# Altium footprint library MyPcbLib.PcbLib: 43 footprints (part 1 of 3)
Each footprint in its own frame and in the unit in brackets; x right, y up, seen from the top. Pads: shape width x height; smd on the part's side, far side on the other; paste and mask are expansions set on the pad; w line width, h text height; cw(c..) or ccw(c..) is an arc to the next point about the centre after c.
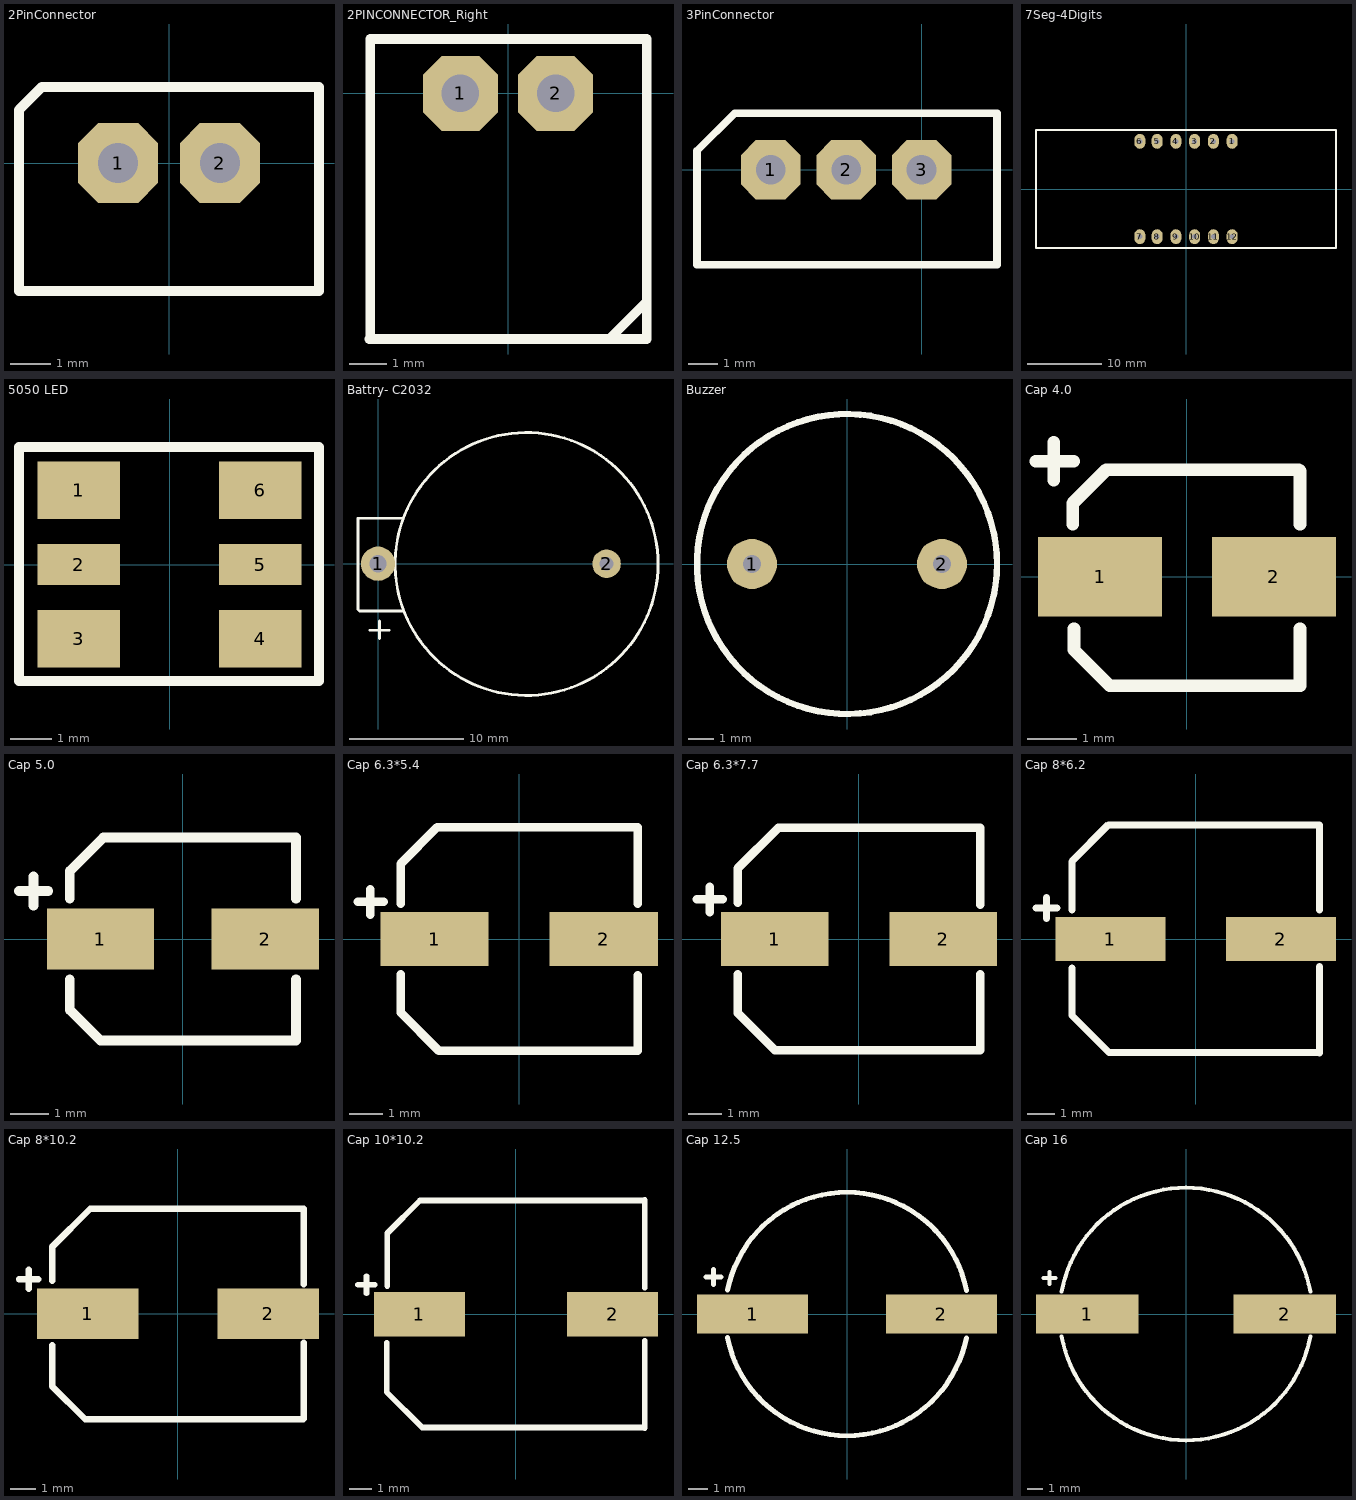
[diagram p0: the footprints below, top view; thin cyan lines are the x and y axes]

## 2PinConnector [mm]
height 6
pads (2):
  oct 2x2 hole 1: 1(-1.27,0) 2(1.27,0)
Top Overlay:
  lines w0.254: -3.75,0.635 -3.75,1.33 -3.175,1.905 3.75,1.905 3.75,-3.2 -3.75,-3.2 -3.75,0.717
3D body: height 6, standoff -1, extent -3.7,-3.1 3.7,1.9

## 2PINCONNECTOR_Right [mm]
height 10
pads (2):
  oct 2x2 hole 1: 1(-1.27,0) 2(1.27,0)
Top Overlay:
  lines w0.254: -3.7,-6.55 3.7,-6.55 3.7,1.45 -3.675,1.45 -3.675,-6.525 ; 2.7,-6.55 3.7,-5.55
3D body: height 4.95, standoff -3.45, extent -3.7,-6.475 3.7,1.425

## 3PinConnector [mm]
pads (3):
  oct 2x2 hole 1: 1(-5.08,0) 2(-2.54,0) 3(0,0)
Top Overlay:
  lines w0.254: -7.56,-3.2 2.54,-3.2 2.54,1.905 -6.29,1.905 -7.56,0.635 -7.56,-3.2
3D body: height 5.95, standoff -3.45, extent -7.46,-3.117 2.44,1.783

## 7Seg-4Digits [mm]
height 7
pads (12):
  oval 1.5x2 hole 0.7: 1(6.25,6.45) 2(3.71,6.45) 3(1.17,6.45) 4(-1.37,6.45) 5(-3.91,6.45) 6(-6.25,6.45) 7(-6.25,-6.45) 8(-3.91,-6.45) 9(-1.37,-6.45) 10(1.17,-6.45) 11(3.71,-6.45) 12(6.25,-6.45)
Top Overlay:
  lines w0.254: -20.32,-8 -20.32,8 20.32,8 20.32,-8 -20.32,-8
3D body: height 7, standoff 0, extent -20.3,-8 20.3,8

## 5050 LED [mm]
height 1.5
pads (6):
  rect 2x1.4 smd: 1(-2.2,1.8) 3(-2.2,-1.8) 4(2.2,-1.8) 6(2.2,1.8)
  rect 2x1 smd: 2(-2.2,0) 5(2.2,0)
Top Overlay:
  lines w0.254: -3.65,-2.825 3.625,-2.825 3.625,2.85 -3.65,2.85 -3.65,-2.825
3D body: height 1.5, standoff 0, extent -3.302,-2.602 3.302,2.602

## Battry- C2032 [mm]
height 9
pads (2):
  round 3 hole 1.5: 1(0,0)
  round 2.5 hole 1.2: 2(20,0)
Top Overlay:
  circle w0.254: c13,-0.025 r11.5
  lines w0.254: -0.725,-5.825 0.975,-5.825 ; 0.125,-6.55 0.125,-5 ; 2.2,-4.125 -1.625,-4.125 -1.75,-4 -1.75,3.975 2.2,3.975
3D body: height 8.7, standoff 0, extent -0.44,-11.049 23.808,11.143

## Buzzer [mm]
height 9.5
pads (2):
  round 2 hole 0.7: 1(-3.8,0) 2(3.8,0)
Top Overlay:
  circle w0.254: c0,0 r6
3D body: height 9.5, standoff 0, extent -5.993,-6 5.993,6

## Cap 4.0 [mm]
height 5.41
pads (2):
  rect 2.5x1.6 smd: 1(-1.75,0) 2(1.75,0)
Top Overlay:
  lines w0.254: -3.04,2.324 -2.278,2.324 ; -2.684,1.943 -2.684,2.705 ; -2.3,1.05 -2.3,1.475 -1.625,2.15 2.25,2.15 2.275,2.125 2.275,1.05 ; -2.275,-1.05 -2.275,-1.475 -1.55,-2.2 2.275,-2.2 2.275,-1.05
3D body: height 5.41, standoff 0, extent -2.3,-2.15 2.3,2.15

## Cap 5.0 [mm]
height 5.4
pads (2):
  rect 2.8x1.6 smd: 1(-2.15,0) 2(2.15,0)
Top Overlay:
  lines w0.254: -4.275,1.251 -3.513,1.251 ; -3.894,0.87 -3.894,1.632 ; -2.95,-1.05 -2.95,-1.85 -2.15,-2.65 2.95,-2.65 2.95,-1.05 ; -2.95,1.05 -2.95,1.775 -2.075,2.65 2.95,2.65 2.95,1.05
3D body: height 5.41, standoff 0, extent -2.95,-2.65 2.95,2.65

## Cap 6.3*5.4 [mm]
height 5.41
pads (2):
  rect 3.2x1.6 smd: 1(-2.5,0) 2(2.5,0)
Top Overlay:
  lines w0.254: -4.762,1.1 -4,1.1 ; -4.4,0.712 -4.4,1.474 ; -3.5,-1.05 -3.5,-2.175 -2.375,-3.3 3.5,-3.3 3.5,-1.075 ; -3.5,1.05 -3.5,2.225 -2.425,3.3 3.5,3.3 3.5,1.05
3D body: height 5.41, standoff 0, extent -3.5,-3.3 3.5,3.3

## Cap 6.3*7.7 [mm]
height 7.8
pads (2):
  rect 3.2x1.6 smd: 1(-2.5,0) 2(2.5,0)
Top Overlay:
  lines w0.254: -4.812,1.175 -4.05,1.175 ; -4.431,0.794 -4.431,1.556 ; -3.6,-1.05 -3.6,-2.2 -2.5,-3.3 3.6,-3.3 3.6,-1.05 ; -3.6,1.075 -3.6,2.1 -2.4,3.3 3.6,3.3 3.6,1.025
3D body: height 7.71, standoff 0, extent -3.6,-3.3 3.6,3.3

## Cap 8*6.2 [mm]
height 6.3
pads (2):
  rect 4x1.6 smd: 1(-3.1,0) 2(3.1,0)
Top Overlay:
  lines w0.254: -5.801,1.126 -5.039,1.126 ; -5.42,0.745 -5.42,1.507 ; -4.5,-1.05 -4.5,-2.775 -3.15,-4.125 4.475,-4.125 4.5,-4.15 4.5,-1 ; -4.5,1.05 -4.5,2.825 -3.175,4.15 4.5,4.15 4.5,1.05
3D body: height 6.21, standoff 0, extent -4.5,-4.15 4.5,4.15

## Cap 8*10.2 [mm]
height 10.3
pads (2):
  rect 4x2 smd: 1(-3.55,0) 2(3.55,0)
Top Overlay:
  lines w0.254: -6.251,1.353 -5.489,1.353 ; -5.87,0.972 -5.87,1.734 ; -4.95,-1.25 -4.95,-2.85 -3.65,-4.15 4.925,-4.15 4.95,-4.125 4.95,-1.15 ; -4.95,1.3 -4.95,2.625 -3.45,4.125 4.95,4.125 4.95,1.15
3D body: height 10.21, standoff 0, extent -4.95,-4.15 4.95,4.15

## Cap 10*10.2 [mm]
height 10.3
pads (2):
  rect 4.1x2 smd: 1(-4.35,0) 2(4.35,0)
Top Overlay:
  lines w0.254: -7.117,1.328 -6.355,1.328 ; -6.736,0.947 -6.736,1.709 ; -5.825,-1.275 -5.825,-3.5 -4.225,-5.1 5.775,-5.1 5.8,-5.125 5.8,-1.2 ; -5.8,1.275 -5.8,3.65 -4.325,5.125 5.775,5.125 5.8,5.15 5.8,1.2
3D body: height 10.21, standoff 0, extent -5.8,-5.15 5.8,5.15

## Cap 12.5 [mm]
pads (2):
  rect 5.7x2 smd: 1(-4.85,0) 2(4.85,0)
Top Overlay:
  lines w0.254: -7.239,1.905 -6.477,1.905 ; -6.858,1.524 -6.858,2.286 ; -6.131,-1.212 ccw(c0,0) 6.129,-1.226 ; -6.129,1.226 cw(c0,0) 6.131,1.212

## Cap 16 [mm]
pads (2):
  rect 6.5x2.5 smd: 1(-6.25,0) 2(6.25,0)
Top Overlay:
  lines w0.254: -9.017,2.286 -8.255,2.286 ; -8.636,1.905 -8.636,2.667 ; -7.874,-1.416 ccw(c0,0) 7.871,-1.429 ; -7.871,1.429 cw(c0,0) 7.874,1.416